# EAGLE library part LT3757 (library Power > Switching Controllers)
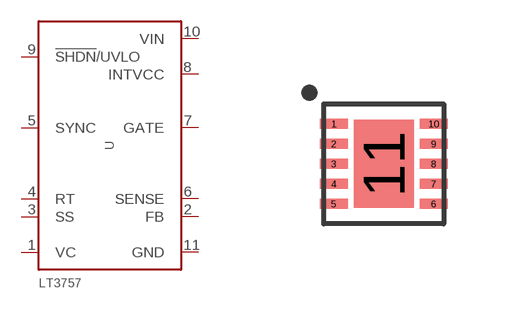
[diagram p14: symbol with the pads of DFN10-2; footprint DFN10-2]

Designator prefix U

## LT3757  [DFN10-2]
1  VC
2  FB
3  SS
4  RT
5  SYNC
6  SENSE
7  GATE
8  INTVCC
9  !SHDN!/UVLO
10  VIN
11  GND

## Footprint DFN10-2 (pad centres in mm)
smd 0.7 x 0.25: 1 -1.25,1; 2 -1.25,0.5; 3 -1.25,0; 4 -1.25,-0.5; 5 -1.25,-1; 6 1.25,-1; 7 1.25,-0.5; 8 1.25,0; 9 1.25,0.5; 10 1.25,1
smd 1.5 x 2.2: 11 0,0